# Altium footprint library RES1.PcbLib: 1 footprints
Each footprint in its own frame and in the unit in brackets; x right, y up, seen from the top. Pads: shape width x height; smd on the part's side, far side on the other; paste and mask are expansions set on the pad; w line width, h text height; cw(c..) or ccw(c..) is an arc to the next point about the centre after c.
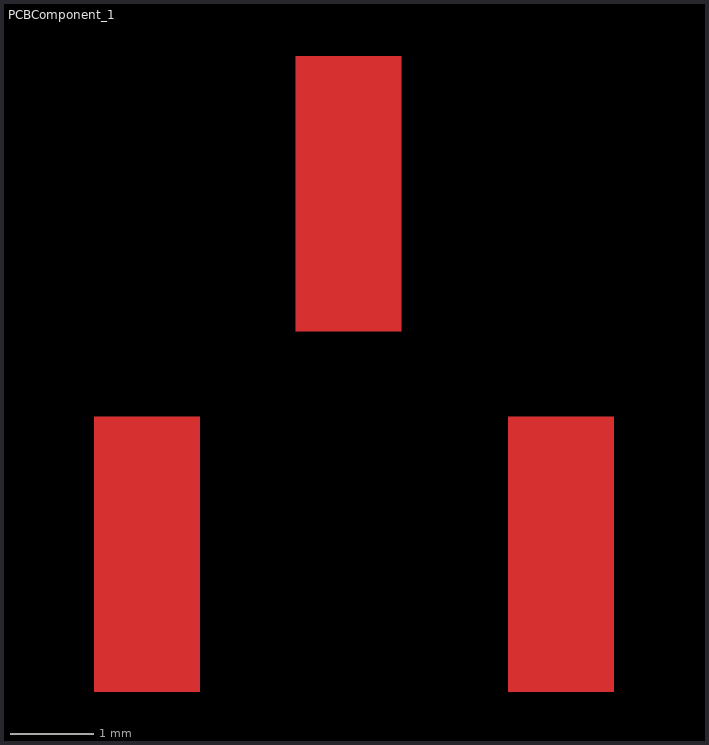
[diagram p0: the footprint, top view; thin cyan lines are the x and y axes]

## PCBComponent_1 [mm]
Top Layer:
  rectangle: -365.633,-710.438 -364.363,-707.136
  rectangle: -368.046,-714.756 -366.776,-711.454
  rectangle: -363.093,-714.756 -361.823,-711.454